# Altium footprint library SOIC127P599X173-8N.PcbLib: 1 footprints
Each footprint in its own frame and in the unit in brackets; x right, y up, seen from the top. Pads: shape width x height; smd on the part's side, far side on the other; paste and mask are expansions set on the pad; w line width, h text height; cw(c..) or ccw(c..) is an arc to the next point about the centre after c.
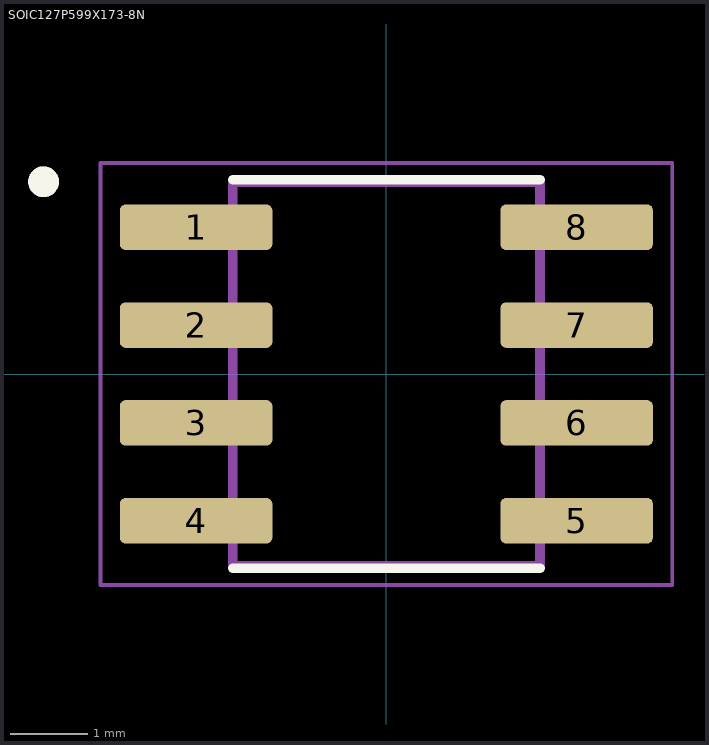
[diagram p0: the footprint, top view; thin cyan lines are the x and y axes]

## SOIC127P599X173-8N [mm]
pads (8):
  rrect25% 1.98x0.59 smd: 1(-2.47,1.905) 2(-2.47,0.635) 3(-2.47,-0.635) 4(-2.47,-1.905) 5(2.47,-1.905) 6(2.47,-0.635) 7(2.47,0.635) 8(2.47,1.905)
Top Overlay:
  circle w0.2: c-4.45,2.495 r0.1
  lines w0.127: -1.995,-2.52 1.995,-2.52 ; -1.995,2.52 1.995,2.52
Mechanical 13:
  circle w0.2: c-4.45,2.495 r0.1
  lines w0.127: -1.995,-2.49 -1.995,2.49 1.995,2.49 1.995,-2.49 -1.995,-2.49
Mechanical 15:
  lines w0.05: -3.71,-2.74 -3.71,2.74 3.71,2.74 3.71,-2.74 -3.71,-2.74
3D body "step_temp.STEP": height 1.75, standoff 0, extent -3,-2.45 3,2.45